# EAGLE library part SEEED-113990556_SEEED_NRF52840 (library biblioteka)
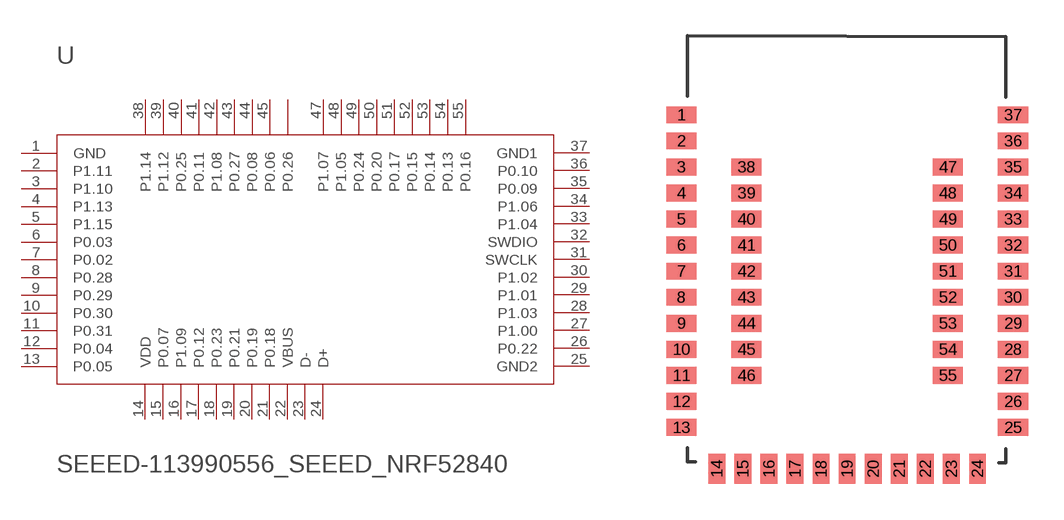
[diagram p2: symbol with the pads of SEEED-113990556_SEEED_NRF52840; footprint SEEED-113990556_SEEED_NRF52840]

Designator prefix -

## SEEED-113990556_SEEED_NRF52840  [SEEED-113990556_SEEED_NRF52840]
1  GND
2  P1.11
3  P1.10
4  P1.13
5  P1.15
6  P0.03
7  P0.02
8  P0.28
9  P0.29
10  P0.30
11  P0.31
12  P0.04
13  P0.05
14  VDD
15  P0.07
16  P1.09
17  P0.12
18  P0.23
19  P0.21
20  P0.19
21  P0.18
22  VBUS
23  D-
24  D+
25  GND2
26  P0.22
27  P1.00
28  P1.03
29  P1.01
30  P1.02
31  SWCLK
32  SWDIO
33  P1.04
34  P1.06
35  P0.09
36  P0.10
37  GND1
38  P1.14
39  P1.12
40  P0.25
41  P0.11
42  P1.08
43  P0.27
44  P0.08
45  P0.06
46  P0.26
47  P1.07
48  P1.05
49  P0.24
50  P0.20
51  P0.17
52  P0.15
53  P0.14
54  P0.13
55  P0.16

## Footprint SEEED-113990556_SEEED_NRF52840 (pad centres in mm)
smd 1.27 x 0.711: 1 -7,5.7; 2 -7,4.6; 3 -7,3.5; 4 -7,2.4; 5 -7,1.3; 6 -7,0.2; 7 -7,-0.9; 8 -7,-2; 9 -7,-3.1; 10 -7,-4.2; 11 -7,-5.3; 12 -7,-6.4; 13 -7,-7.5; 25 7,-7.5; 26 7,-6.4; 27 7,-5.3; 28 7,-4.2; 29 7,-3.1; 30 7,-2; 31 7,-0.9; 32 7,0.2; 33 7,1.3; 34 7,2.4; 35 7,3.5; 36 7,4.6; 37 7,5.7; 38 -4.25,3.5; 39 -4.25,2.4; 40 -4.25,1.3; 41 -4.25,0.2; 42 -4.25,-0.9; 43 -4.25,-2; 44 -4.25,-3.1; 45 -4.25,-4.2; 46 -4.25,-5.3; 47 4.25,3.5; 48 4.25,2.4; 49 4.25,1.3; 50 4.25,0.2; 51 4.25,-0.9; 52 4.25,-2; 53 4.25,-3.1; 54 4.25,-4.2; 55 4.25,-5.3
smd 0.711 x 1.27: 14 -5.5,-9.25; 15 -4.4,-9.25; 16 -3.3,-9.25; 17 -2.2,-9.25; 18 -1.1,-9.25; 19 0,-9.25; 20 1.1,-9.25; 21 2.2,-9.25; 22 3.3,-9.25; 23 4.4,-9.25; 24 5.5,-9.25